# Altium integrated library DPT2.4.IntLib: 25 symbols
Pins are listed as number, name and electrical type; pins without a type are passive.

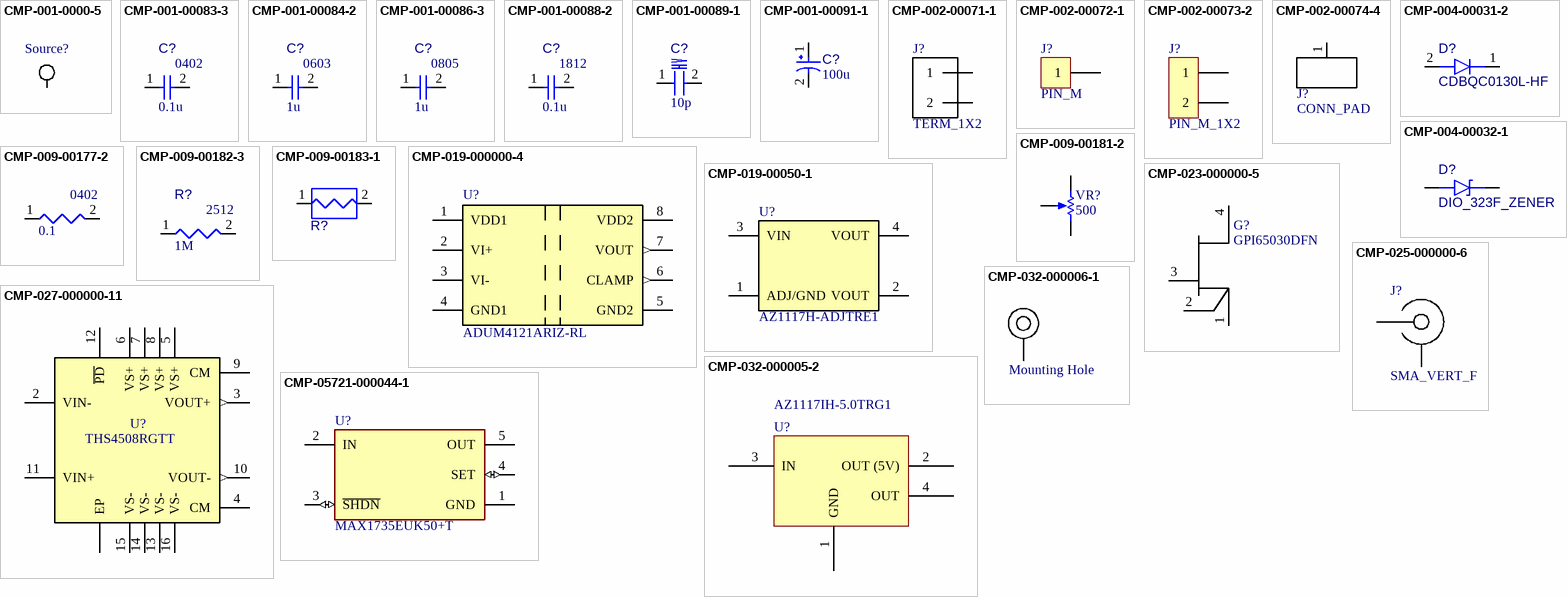
[diagram p0: symbols CMP-001-0000-5 to CMP-05721-000044-1]

## CMP-001-0000-5
designator Source?, comment Testpoint  (value not drawn)
testpoint for circuit; Component Type: Miscellaneous
footprint Testpoint-Footprint-1
pins: 1

## CMP-001-00083-3
designator C?, comment value 0.1u  (hidden comment: CAP-0402)
Non polarized SMD capacitor - 0402 (1005 Metric); Package: 0402; Component Type: Capacitors
footprint CAP_0402_HIGH (SMD Capacitor 0402 (1005 Metric) - High Density)
footprint CAP_0402_LOW (SMD Capacitor 0402 (1005 Metric) - Low Density)
footprint CAP_0402_MED (SMD Capacitor 0402 (1005 Metric) - Medium Density)
pins: 1, 2

## CMP-001-00084-2
designator C?, comment value 1u  (hidden comment: CAP-0603)
Non polarized SMD capacitor - 0603 (1608 Metric); Package: 0603; Component Type: Capacitors
footprint CAP_0603_HIGH (SMD Capacitor 0603 (1608 Metric) - High Density)
footprint CAP_0603_LOW (SMD Capacitor 0603 (1608 Metric) - Low Density)
footprint CAP_0603_MED (SMD Capacitor 0603 (1608 Metric) - Medium Density)
pins: 1, 2

## CMP-001-00086-3
designator C?, comment value 1u  (hidden comment: CAP-0805)
Non polarized SMD capacitor - 0805 (1608 Metric); Package: 0805; Component Type: Capacitors
footprint CAP_0805_MED (SMD Capacitor 0805 (2013 Metric) - Medium Density)
pins: 1, 2

## CMP-001-00088-2
designator C?, comment value 0.1u  (hidden comment: CAP-1812)
Non polarized SMD capacitor - 1812 (4532 Metric); Package: 1812; Component Type: Capacitors
footprint CAP_1812 (Non Polarized SMD Capacitor 1812 (4532 Metric))
pins: 1, 2

## CMP-001-00089-1
designator C?, comment value 10p  (hidden comment: CAP-1206-HV)
Non polarized SMD capacitor - 1206 (3216 Metric) High Voltage; Voltage Rating: 1kV; Package: 1206; Component Type: Capacitors
footprint CAP_1206_HV (SMD Capacitor 1206 (3216 Metric) - High Voltage)
pins: 1, 2

## CMP-001-00091-1
designator C?, comment value 100u  (hidden comment: PCAP-2MMx5MM)
Polarized THT capacitor - Radial can, 2mm lead spacing, 5mm diameter; Component Type: Capacitors
footprint PCAP_2MM_5MM (Polarized Capacitor THT - 2-Leads, Dia 5mm, Pin Spacing 2mm)
pins: 1, 2

## CMP-002-00071-1
designator J?, comment TERM_1X2
Terminal Block 1X2, 6.35mm pitch; Component Type: Connectors
footprint J_TERM_BLK_1X2 (PCB 1X2 Terminal block)
pins: 1, 2

## CMP-002-00072-1
designator J?, comment PIN_M
Male Pin, 1 Pin; Component Type: Connectors
footprint J_THT_1_PIN (M/F Pin Header 1 Pin)
pins: 1

## CMP-002-00073-2
designator J?, comment PIN_M_1X2
Male Pin 2.54mm pitch 1X2; Component Type: Connectors
footprint J_THT_2.54MM_1X2 (M/F Pin Header 2.54mm pitch, 1X2)
pins: 1, 2

## CMP-002-00074-4
designator J?, comment CONN_PAD
Solderable Connection Pad; Component Type: Connectors
footprint CONN_PAD (Generic Exposed Pad for connecting a Load (30A out))
pins: 1

## CMP-004-00031-2
designator D?, comment CDBQC0130L-HF
Low VF SMD Schottky Barrier Diode; Package: SOD-923F; Component Type: Diodes
footprint DIO_SOD-923F (SOD-923F Small outline diode)
pins: 1 K, 2 A

## CMP-004-00032-1
designator D?, comment DIO_323F_ZENER
Generic SOD-323F Zener diode; Value: 6.2V; Package: SOD-323F; Component Type: Diodes
footprint DIO_SOD-323F (SOD-323F Small outline diode)
pins: 1 K, 2 A

## CMP-009-00177-2
designator R?, comment value 0.1  (hidden comment: RES-0402)
SMD Resistor - 0402 (1005 Metric); Package: 0402; Component Type: Resistors
footprint RES_0402_HIGH (SMD Resistor 0402 (1005 Metric) - High Density)
footprint RES_0402_LOW (SMD Resistor 0402 (1005 Metric) - Low Density)
footprint RES_0402_MED (SMD Resistor 0402 (1005 Metric) - Medium Density)
pins: 1, 2
1 alternate drawing of the same symbol

## CMP-009-00181-2
designator VR?, comment value 500  (hidden comment: RES_POT_JLEAD)
Potentiometer, J-Lead Trim Pot; Component Type: Resistors
footprint TRIM_J-LEAD (3mm SMD J-Lead Trim Pot); pin to pad 2>3 3>2
pins: 1 CCW, 2 S, 3 CW

## CMP-009-00182-3
designator R?, comment value 1M  (hidden comment: RES-2512)
SMD Resistor - 2512 (6432 Metric); Package: 2512; Component Type: Resistors
footprint RES_2512_MED (SMD Resistor 2512 (6432 Metric) - Medium Density)
pins: 1, 2
1 alternate drawing of the same symbol

## CMP-009-00183-1
designator R?, comment RES-2512-SIDE  (value not drawn)
SMD Resistor - 2512 (6432) On It's Side; Package: 2512; Component Type: Resistors
footprint RES_2512_SIDE (SMD Resistor 2512 (6432 Metric) - On its side)
pins: 1, 2
1 alternate drawing of the same symbol

## CMP-019-000000-4
designator U?, comment ADUM4121ARIZ-RL
DGTL ISO 5KV 1CH GATE DRVR 8SOIC; Package: 8-SOIC WIDE; Component Type: Drivers
footprint SOIC-8_WIDE (SOIC-8 Wide body)
pins: 1 VDD1 (power), 2 VI+, 3 VI-, 4 GND1 (power), 5 GND2 (power), 6 CLAMP (out), 7 VOUT (out), 8 VDD2 (power)

## CMP-019-00050-1
designator U?, comment AZ1117H-ADJTRE1
IC REG LINEAR POS ADJ 1A SOT223; Package: SOT223; Component Type: Power Supply
footprint SOT-223
pins: 1 ADJ/GND, 2 VOUT, 3 VIN, 4 VOUT

## CMP-023-000000-5
designator G?, comment GPI65030DFN
650V 15A GaN Enhancement mode Transistor; Package: DFN8X8; Component Type: Transistors
footprint DFN_8X8 (DFN, 4-Leads, Body 8.00x8.00mm, Pitch 7.95mm, IPC Medium Density); pin to pad 1>1+2+9 2>3 3>4 4>5+6+7+8
pins: 1 S, 2 KS, 3 G, 4 D

## CMP-025-000000-6
designator J?, comment SMA_VERT_F
SMA connector, Vertical, Female; Package: SMA; Component Type: Connectors
footprint SMA_VERT_F (SMA Vertical Connector, Female); pin to pad 2>2+3+4+5
pins: 1, 2 "GND"

## CMP-027-000000-11
designator U?, comment THS4508RGTT
WIDEBAND, LOW NOISE, LOW DISTORTION FULLY DIFFERENTIAL AMPLIFIER; Package: QFN3X3; Component Type: Amplifiers
footprint QFN-16 (QFN-16  3mmX3mm); pin to pad 17>17+18+19+20+21
pins: 2 VIN-, 3 VOUT+ (out), 4 CM, 5 VS+ (power), 6 VS+ (power), 7 VS+ (power), 8 VS+ (power), 9 CM, 10 VOUT- (out), 11 VIN+, 12 ~{PD}, 13 VS- (power), 14 VS- (power), 15 VS- (power), 16 VS- (power), 17 EP (power)

## CMP-032-000005-2
designator U?, comment AZ1117IH-5.0TRG1
https://www.digikey.ca/en/products/detail/diodes-incorporated/AZ1117IH-5-0TRG1/5699673
footprint SOT230P700X180-4N (SOT223, 4-Leads, Body 6.50x7.00mm (avg), Pitch 2.30mm, IPC Medium Density)
pins: 1 GND, 2 OUT (5V), 3 IN, 4 OUT

## CMP-032-000006-1
designator MH?, comment Mounting Hole
footprint Mounting Hole-Footprint-1
pins: 1 GND

## CMP-05721-000044-1
designator U?, comment MAX1735EUK50+T
IC REG LIN NEG ADJ 200MA SOT23-5; Manufacturer: Maxim; Manufacturer Part Number: MAX1735EUK50+T
footprint FP-U5-2-IPC_B
footprint FP-U5-2-IPC_A
footprint FP-U5-2-MFG
footprint FP-U5-2-IPC_C
pins: 1 GND (power), 2 IN (power), 3 ~{SHDN} (io), 4 SET (io), 5 OUT